# EAGLE library part 5584АП7 (library std-logic-5584series)
АЕЯР.431200.209 ТУ 5584АП7У, 5584АП7АУ - Восьмиканальный двунаправленный приемопередатчик со схемой удержания информации на входе и тремя состояниями на выходе.
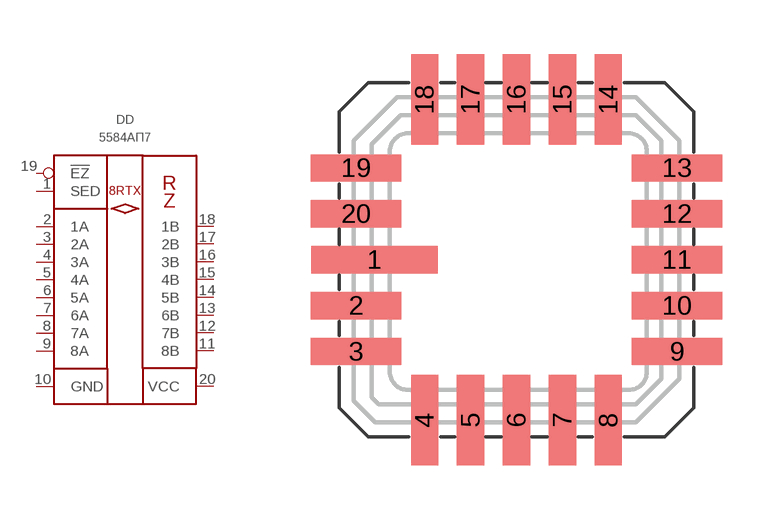
[diagram p3: symbol with the pads of 5121.20-A; footprint 5121.20-A]

Designator prefix DD

## 5584АП7У  [5121.20-A]
1  SED  in
2  1A
3  2A
4  3A
5  4A
6  5A
7  6A
8  7A
9  8A
10  GND  pwr
11  8B
12  7B
13  6B
14  5B
15  4B
16  3B
17  2B
18  1B
19  !EZ  in
20  VCC  pwr

## 5584АП7АУ  [5121.20-A]
Pads as for 5121.20-A

## Footprint 5121.20-A (pad centres in mm)
smd 3.5 x 0.75: 1 -3.925,0
smd 2.5 x 0.75: 2 -4.435,-1.27; 3 -4.435,-2.54; 9 4.435,-2.54; 10 4.435,-1.27; 11 4.435,0; 12 4.435,1.27; 13 4.435,2.54; 19 -4.435,2.54; 20 -4.435,1.27
smd 0.75 x 2.5: 4 -2.54,-4.435; 5 -1.27,-4.435; 6 0,-4.435; 7 1.27,-4.435; 8 2.54,-4.435; 14 2.54,4.435; 15 1.27,4.435; 16 0,4.435; 17 -1.27,4.435; 18 -2.54,4.435